# Altium schematic symbol library WE-XHMI.SchLib: 178 symbols (part 4 of 4)
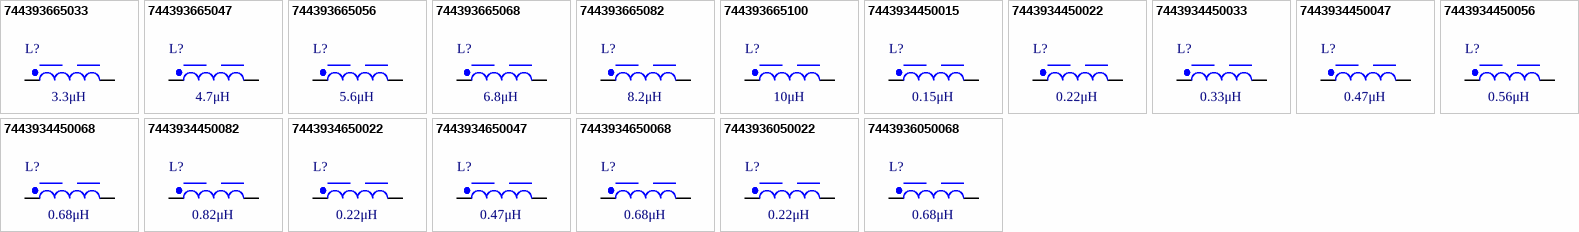
[diagram p7: symbols 744393665033 to 7443936050068]

## 7443934450022
designator L?, comment 0.22μH
WE-XHMI SMT Power Inductor, size 6030 P, 0.22μH, 51.6A, 1.5mΩ; Manufacturer Part Number: 7443934450022; Manufacturer: Wurth Elektronik; Case/Size Code: 6030 P; DC Resistance: 1.2mΩ; Saturation Current @ 30%: 37.9A; Self Resonant Frequency: 125MHz; Category: Power Inductors; Match Code: WE-XHMI; ComponentLink1Description: Website Link; ComponentLink1URL: https://www.we-online.com/redexpert/article/7443934450022?ad; ComponentLink2Description: Datasheet Link; ComponentLink2URL: https://www.we-online.com/redexpert/spec/7443934450022?ad; Mount: Surface Mount; Min Operating Temperature: -55°C; Max Operating Temperature: 150°C; Packaging: Tape and Reel; Length: 6.6mm; Width: 6.4mm; Height: 3.1mm; DC Resistance Max: 1.5mΩ; Inductance: 0.22μH; Performance Rated Current: 51.6A
footprint WE-XHMI_6030 P
simulation model 6030P_7443934450022_0.22u
pins: 1, 2

## 7443934450033
designator L?, comment 0.33μH
WE-XHMI SMT Power Inductor, size 6030 P, 0.33μH, 42.5A, 2mΩ; Manufacturer Part Number: 7443934450033; Manufacturer: Wurth Elektronik; Case/Size Code: 6030 P; DC Resistance: 1.6mΩ; Saturation Current @ 30%: 33.7A; Self Resonant Frequency: 87MHz; Category: Power Inductors; Match Code: WE-XHMI; ComponentLink1Description: Website Link; ComponentLink1URL: https://www.we-online.com/redexpert/article/7443934450033?ad; ComponentLink2Description: Datasheet Link; ComponentLink2URL: https://www.we-online.com/redexpert/spec/7443934450033?ad; Mount: Surface Mount; Min Operating Temperature: -55°C; Max Operating Temperature: 150°C; Packaging: Tape and Reel; Length: 6.6mm; Width: 6.4mm; Height: 3.1mm; DC Resistance Max: 2mΩ; Inductance: 0.33μH; Performance Rated Current: 42.5A
footprint WE-XHMI_6030 P
simulation model 6030P_7443934450033_0.33u
pins: 1, 2

## 7443934450047
designator L?, comment 0.47μH
WE-XHMI SMT Power Inductor, size 6030 P, 0.47μH, 40.7A, 2.7mΩ; Manufacturer Part Number: 7443934450047; Manufacturer: Wurth Elektronik; Case/Size Code: 6030 P; DC Resistance: 2.1mΩ; Saturation Current @ 30%: 33.2A; Self Resonant Frequency: 75MHz; Category: Power Inductors; Match Code: WE-XHMI; ComponentLink1Description: Website Link; ComponentLink1URL: https://www.we-online.com/redexpert/article/7443934450047?ad; ComponentLink2Description: Datasheet Link; ComponentLink2URL: https://www.we-online.com/redexpert/spec/7443934450047?ad; Mount: Surface Mount; Min Operating Temperature: -55°C; Max Operating Temperature: 150°C; Packaging: Tape and Reel; Length: 6.6mm; Width: 6.4mm; Height: 3.1mm; DC Resistance Max: 2.7mΩ; Inductance: 0.47μH; Performance Rated Current: 40.7A
footprint WE-XHMI_6030 P
simulation model 6030P_7443934450047_0.47u
pins: 1, 2

## 7443934450056
designator L?, comment 0.56μH
WE-XHMI SMT Power Inductor, size 6030 P, 0.56μH, 31.4A, 3.4mΩ; Manufacturer Part Number: 7443934450056; Manufacturer: Wurth Elektronik; Case/Size Code: 6030 P; DC Resistance: 2.7mΩ; Saturation Current @ 30%: 32.7A; Self Resonant Frequency: 68MHz; Category: Power Inductors; Match Code: WE-XHMI; ComponentLink1Description: Website Link; ComponentLink1URL: https://www.we-online.com/redexpert/article/7443934450056?ad; ComponentLink2Description: Datasheet Link; ComponentLink2URL: https://www.we-online.com/redexpert/spec/7443934450056?ad; Mount: Surface Mount; Min Operating Temperature: -55°C; Max Operating Temperature: 150°C; Packaging: Tape and Reel; Length: 6.6mm; Width: 6.4mm; Height: 3.1mm; DC Resistance Max: 3.4mΩ; Inductance: 0.56μH; Performance Rated Current: 31.4A
footprint WE-XHMI_6030 P
simulation model 6030P_7443934450056_0.56u
pins: 1, 2

## 7443934450068
designator L?, comment 0.68μH
WE-XHMI SMT Power Inductor, size 6030 P, 0.68μH, 30A, 3.4mΩ; Manufacturer Part Number: 7443934450068; Manufacturer: Wurth Elektronik; Case/Size Code: 6030 P; DC Resistance: 2.8mΩ; Saturation Current @ 30%: 22.3A; Self Resonant Frequency: 57MHz; Category: Power Inductors; Match Code: WE-XHMI; ComponentLink1Description: Website Link; ComponentLink1URL: https://www.we-online.com/redexpert/article/7443934450068?ad; ComponentLink2Description: Datasheet Link; ComponentLink2URL: https://www.we-online.com/redexpert/spec/7443934450068?ad; Mount: Surface Mount; Min Operating Temperature: -55°C; Max Operating Temperature: 150°C; Packaging: Tape and Reel; Length: 6.6mm; Width: 6.4mm; Height: 3.1mm; DC Resistance Max: 3.4mΩ; Inductance: 0.68μH; Performance Rated Current: 30A
footprint WE-XHMI_6030 P
simulation model 6030P_7443934450068_0.68u
pins: 1, 2

## 7443934450082
designator L?, comment 0.82μH
WE-XHMI SMT Power Inductor, size 6030 P, 0.82μH, 28.7A, 4mΩ; Manufacturer Part Number: 7443934450082; Manufacturer: Wurth Elektronik; Case/Size Code: 6030 P; DC Resistance: 3.4mΩ; Saturation Current @ 30%: 21.9A; Self Resonant Frequency: 50MHz; Category: Power Inductors; Match Code: WE-XHMI; ComponentLink1Description: Website Link; ComponentLink1URL: https://www.we-online.com/redexpert/article/7443934450082?ad; ComponentLink2Description: Datasheet Link; ComponentLink2URL: https://www.we-online.com/redexpert/spec/7443934450082?ad; Mount: Surface Mount; Min Operating Temperature: -55°C; Max Operating Temperature: 150°C; Packaging: Tape and Reel; Length: 6.6mm; Width: 6.4mm; Height: 3.1mm; DC Resistance Max: 4mΩ; Inductance: 0.82μH; Performance Rated Current: 28.7A
footprint WE-XHMI_6030 P
simulation model 6030P_7443934450082_0.82u
pins: 1, 2

## 7443934650022
designator L?, comment 0.22μH
WE-XHMI SMT Power Inductor, size 6060 P, 0.22μH, 54A, 1.3mΩ; Manufacturer Part Number: 7443934650022; Manufacturer: Wurth Elektronik; Case/Size Code: 6060 P; DC Resistance: 1.1mΩ; Saturation Current @ 30%: 70.6A; Self Resonant Frequency: 125MHz; Category: Power Inductors; Match Code: WE-XHMI; ComponentLink1Description: Website Link; ComponentLink1URL: https://www.we-online.com/redexpert/article/7443934650022?ad; ComponentLink2Description: Datasheet Link; ComponentLink2URL: https://www.we-online.com/redexpert/spec/7443934650022?ad; Mount: Surface Mount; Min Operating Temperature: -55°C; Max Operating Temperature: 150°C; Packaging: Tape and Reel; Length: 6.6mm; Width: 6.4mm; Height: 6.1mm; DC Resistance Max: 1.3mΩ; Inductance: 0.22μH; Performance Rated Current: 54A
footprint WE-XHMI_6060 P
simulation model 6060P_7443934650022_0.22u
pins: 1, 2

## 7443934650047
designator L?, comment 0.47μH
WE-XHMI SMT Power Inductor, size 6060 P, 0.47μH, 45A, 1.5mΩ; Manufacturer Part Number: 7443934650047; Manufacturer: Wurth Elektronik; Case/Size Code: 6060 P; DC Resistance: 1.4mΩ; Saturation Current @ 30%: 40.6A; Self Resonant Frequency: 75MHz; Category: Power Inductors; Match Code: WE-XHMI; ComponentLink1Description: Website Link; ComponentLink1URL: https://www.we-online.com/redexpert/article/7443934650047?ad; ComponentLink2Description: Datasheet Link; ComponentLink2URL: https://www.we-online.com/redexpert/spec/7443934650047?ad; Mount: Surface Mount; Min Operating Temperature: -55°C; Max Operating Temperature: 150°C; Packaging: Tape and Reel; Length: 6.6mm; Width: 6.4mm; Height: 6.1mm; DC Resistance Max: 1.5mΩ; Inductance: 0.47μH; Performance Rated Current: 45A
footprint WE-XHMI_6060 P
simulation model 6060P_7443934650047_0.47u
pins: 1, 2

## 7443934650068
designator L?, comment 0.68μH
WE-XHMI SMT Power Inductor, size 6060 P, 0.68μH, 40.6A, 2.1mΩ; Manufacturer Part Number: 7443934650068; Manufacturer: Wurth Elektronik; Case/Size Code: 6060 P; DC Resistance: 1.7mΩ; Saturation Current @ 30%: 29.4A; Self Resonant Frequency: 62MHz; Category: Power Inductors; Match Code: WE-XHMI; ComponentLink1Description: Website Link; ComponentLink1URL: https://www.we-online.com/redexpert/article/7443934650068?ad; ComponentLink2Description: Datasheet Link; ComponentLink2URL: https://www.we-online.com/redexpert/spec/7443934650068?ad; Mount: Surface Mount; Min Operating Temperature: -55°C; Max Operating Temperature: 150°C; Packaging: Tape and Reel; Length: 6.6mm; Width: 6.4mm; Height: 6.1mm; DC Resistance Max: 2.1mΩ; Inductance: 0.68μH; Performance Rated Current: 40.6A
footprint WE-XHMI_6060 P
simulation model 6060P_7443934650068_0.68u
pins: 1, 2

## 7443936050022
designator L?, comment 0.22μH
WE-XHMI SMT Power Inductor, size 1010 P, 0.22μH, 96.6A, 0.5mΩ; Manufacturer Part Number: 7443936050022; Manufacturer: Wurth Elektronik; Case/Size Code: 1010 P; DC Resistance: 0.37mΩ; Saturation Current @ 30%: 114A; Self Resonant Frequency: 115MHz; Category: Power Inductors; Match Code: WE-XHMI; ComponentLink1Description: Website Link; ComponentLink1URL: https://www.we-online.com/redexpert/article/7443936050022?ad; ComponentLink2Description: Datasheet Link; ComponentLink2URL: https://www.we-online.com/redexpert/spec/7443936050022?ad; Mount: Surface Mount; Min Operating Temperature: -55°C; Max Operating Temperature: 150°C; Packaging: Tape and Reel; Length: 11.3mm; Width: 10mm; Height: 10mm; DC Resistance Max: 0.5mΩ; Inductance: 0.22μH; Performance Rated Current: 96.6A
footprint WE-XHMI_1010 P
simulation model 1010P_7443936050022_0.22u
pins: 1, 2

## 7443936050068
designator L?, comment 0.68μH
WE-XHMI SMT Power Inductor, size 1010 P, 0.68μH, 61.1A, 0.91mΩ; Manufacturer Part Number: 7443936050068; Manufacturer: Wurth Elektronik; Case/Size Code: 1010 P; DC Resistance: 0.77mΩ; Saturation Current @ 30%: 68.5A; Self Resonant Frequency: 50MHz; Category: Power Inductors; Match Code: WE-XHMI; ComponentLink1Description: Website Link; ComponentLink1URL: https://www.we-online.com/redexpert/article/7443936050068?ad; ComponentLink2Description: Datasheet Link; ComponentLink2URL: https://www.we-online.com/redexpert/spec/7443936050068?ad; Mount: Surface Mount; Min Operating Temperature: -55°C; Max Operating Temperature: 150°C; Packaging: Tape and Reel; Length: 11.3mm; Width: 10mm; Height: 10mm; DC Resistance Max: 0.91mΩ; Inductance: 0.68μH; Performance Rated Current: 61.1A
footprint WE-XHMI_1010 P
simulation model 1010P_7443936050068_0.68u
pins: 1, 2